# Altium footprint library Displays.PcbLib: 1 footprints
Each footprint in its own frame and in the unit in brackets; x right, y up, seen from the top. Pads: shape width x height; smd on the part's side, far side on the other; paste and mask are expansions set on the pad; w line width, h text height; cw(c..) or ccw(c..) is an arc to the next point about the centre after c.
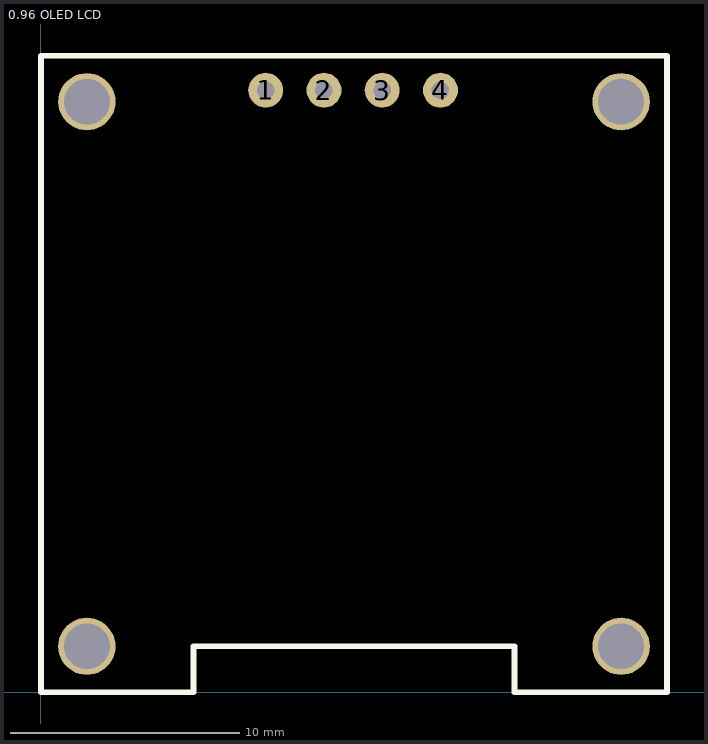
[diagram p0: the footprint, top view; thin cyan lines are the x and y axes]

## 0.96 OLED LCD [mm]
height 4.5
pads (8):
  round 1.524 hole 0.762: 1(9.8,26.25) 2(12.34,26.25) 3(14.88,26.25) 4(17.42,26.25)
  round 2.5 hole 2: ""(2,2) ""(2,25.75) ""(25.3,2) ""(25.3,25.75)
Top Overlay:
  lines w0.254: 20.606,2 6.65,2 6.65,0 0,0 0,27.75 27.3,27.75 27.3,0 20.65,0 20.65,2